# Altium integrated library NSC Legacy.IntLib: 687 symbols (part 6 of 17)
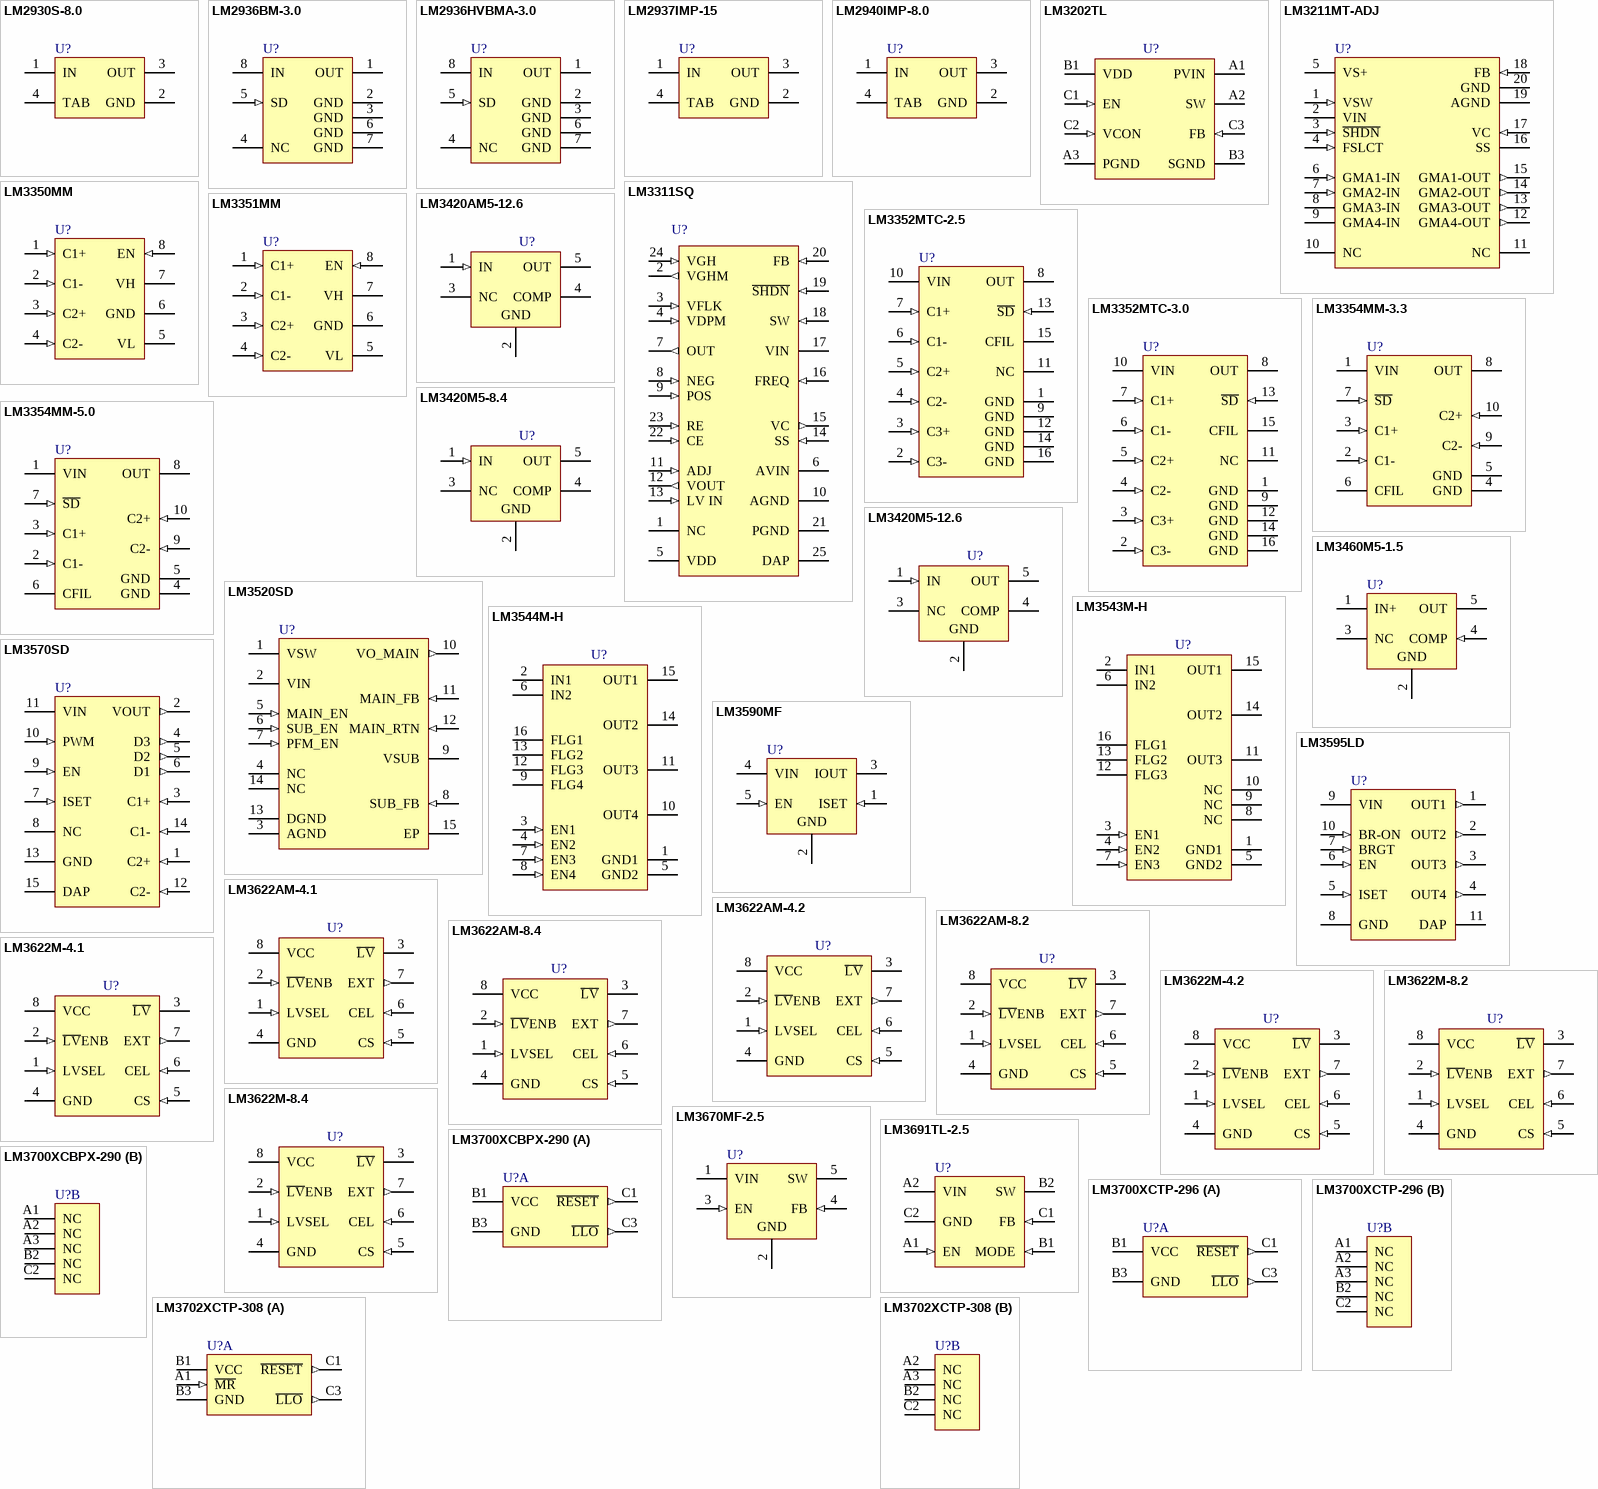
[diagram p29: symbols LM2930S-8.0 to LM3702XCTP-308]

## LM3211MT-ADJ
designator U?
Step-up PWM DC/DC Converter Integrated with 4 Buffers, 20-pin TSSOP; PartNumber: LM3211MT-ADJ; Manufacturer: National Semiconductor; PackageTopMarking: NSUZXYTT*LM3211*MTADJ; CompType: MiscPower; Published: 4-Dec-2008; DatasheetVersion: Feb-2004; PackageVersion: revE, Mar-2003; PackageReference: MTC20; Publisher: Altium Limited; PackageDescription: Molded TSSOP, Jedec, 6.5 x 4.4 x 0.9mm Body, 20 Lead, 0.65mm Pitch; Supplier 1: Farnell; Supplier Part Number 1: 1286875; RoHS: Y; PinCount: 20; Code_JEDEC: MO-153-AC; ComponentLink1Description: LM3211 Datasheet; ComponentLink1URL: http://www.national.com/ds/LM/LM3211.pdf; ComponentLink2Description: LM3211 Web Page; ComponentLink2URL: http://www.national.com/pf/LM/LM3211.html; ComponentLink3Description: MTC20 Package Page; ComponentLink3URL: http://www.national.com/packaging/folders/mtc20.html
footprint MTC20_N (TSOP, 20-Leads, Body 6.5x4.4mm, Pitch 0.65mm, IPC Medium Density)
footprint MTC20_L (TSOP, 20-Leads, Body 6.5x4.4mm, Pitch 0.65mm, IPC High Density)
footprint MTC20_M (TSOP, 20-Leads, Body 6.5x4.4mm, Pitch 0.65mm, IPC Low Density)
pins: 1 VSW (in), 2 VIN (power), 3 ~{SHDN} (in), 4 FSLCT (in), 5 VS+ (power), 6 GMA1-IN (in), 7 GMA2-IN (in), 8 GMA3-IN, 9 GMA4-IN (power), 10 NC, 11 NC, 12 GMA4-OUT (out), 13 GMA3-OUT (out), 14 GMA2-OUT (out), 15 GMA1-OUT (out), 16 SS, 17 VC (in), 18 FB (in), 19 AGND (power), 20 GND (power)

## LM3311SQ
designator U?
Step-Up PWM DC/DC Converter with Integrated LDO, Op-Amp, and Gate Pulse Modulation Switch, 24-pin LLP; PartNumber: LM3311SQ; Manufacturer: National Semiconductor; PackageTopMarking: NS*UZXYTT*L3311SQ; CompType: MiscPower; Published: 4-Dec-2008; DatasheetVersion: Nov-2007; PackageVersion: revB, Aug-2003; PackageReference: SQA24A; Publisher: Altium Limited; PackageDescription: LLP, Plastic, Quad, 4 x 4 x 0.8mm Body, 24 Lead, 0.5mm Pitch, No Pullback; Supplier 1: Farnell; Supplier Part Number 1: 1312712; RoHS: Y; PinCount: 24; Code_JEDEC: MO-220-WGGD-6; ComponentLink1Description: LM3311 Datasheet; ComponentLink1URL: http://www.national.com/ds/LM/LM3311.pdf; ComponentLink2Description: LM3311 Web Page; ComponentLink2URL: http://www.national.com/pf/LM/LM3311.html; ComponentLink3Description: SQA24A Package Page; ComponentLink3URL: http://www.national.com/packaging/folders/sqa24a.html
footprint SQA24A (QFN, 24-Leads, Body 4x4mm, Pitch 0.5mm, NSC Recommended)
pins: 1 NC, 2 VGHM (out), 3 VFLK (in), 4 VDPM (in), 5 VDD (power), 6 AVIN (power), 7 OUT (out), 8 NEG (in), 9 POS (in), 10 AGND (power), 11 ADJ (in), 12 VOUT (out), 13 LV IN (in), 14 SS (in), 15 VC (out), 16 FREQ (in), 17 VIN (power), 18 SW (in), 19 ~{SHDN} (in), 20 FB (in), 21 PGND (power), 22 CE (in), 23 RE (in), 24 VGH (in), 25 DAP (power)

## LM3350MM
designator U?
Switched Capacitor Voltage Converter, 8-pin Mini SOIC; PartNumber: LM3350MM; Manufacturer: National Semiconductor; PackageTopMarking: ZXTT*S00A; CompType: Switch Caps; Published: 4-Dec-2008; DatasheetVersion: Dec-1999; PackageVersion: revF, Apr-2008; PackageReference: MUA08A; Publisher: Altium Limited; PackageDescription: MINI SOIC, .118 x .118 x .034in, 8 Lead, .0256in Pitch; RoHS: Y; PinCount: 8; Code_JEDEC: MO-187-AA; ComponentLink1Description: LM3350 Datasheet; ComponentLink1URL: http://www.national.com/ds/LM/LM3350.pdf; ComponentLink2Description: LM3350 Web Page; ComponentLink2URL: http://www.national.com/pf/LM/LM3350.html; ComponentLink3Description: MUA08A Package Page; ComponentLink3URL: http://www.national.com/packaging/folders/mua08a.html
footprint MUA08A_N (TSOP, 8-Leads, Body 3x3mm, Pitch 0.65mm, IPC Medium Density)
footprint MUA08A_L (TSOP, 8-Leads, Body 3x3mm, Pitch 0.65mm, IPC High Density)
footprint MUA08A_M (TSOP, 8-Leads, Body 3x3mm, Pitch 0.65mm, IPC Low Density)
pins: 1 C1+ (in), 2 C1- (in), 3 C2+ (in), 4 C2- (in), 5 VL (power), 6 GND (power), 7 VH (power), 8 EN (in)

## LM3351MM
designator U?
Switched Capacitor Voltage Converter, 8-pin Mini SOIC; PartNumber: LM3351MM; Manufacturer: National Semiconductor; PackageTopMarking: ZXTT*S05A; PowerWise: N; CompType: Switch Caps; Published: 4-Dec-2008; DatasheetVersion: Dec-1999; PackageVersion: revF, Apr-2008; PackageReference: MUA08A; Publisher: Altium Limited; PackageDescription: MINI SOIC, .118 x .118 x .034in, 8 Lead, .0256in Pitch; Supplier 1: Digi-Key; Supplier Part Number 1: LM3351MMCT-ND; Supplier 2: Digi-Key; Supplier Part Number 2: LM3351MMDKR-ND; RoHS: O; PinCount: 8; Code_JEDEC: MO-187-AA; ComponentLink1Description: LM3351 Datasheet; ComponentLink1URL: http://www.national.com/ds/LM/LM3351.pdf; ComponentLink2Description: LM3351 Web Page; ComponentLink2URL: http://www.national.com/pf/LM/LM3351.html; ComponentLink3Description: MUA08A Package Page; ComponentLink3URL: http://www.national.com/packaging/folders/mua08a.html
footprint MUA08A_N (TSOP, 8-Leads, Body 3x3mm, Pitch 0.65mm, IPC Medium Density)
footprint MUA08A_L (TSOP, 8-Leads, Body 3x3mm, Pitch 0.65mm, IPC High Density)
footprint MUA08A_M (TSOP, 8-Leads, Body 3x3mm, Pitch 0.65mm, IPC Low Density)
pins: 1 C1+ (in), 2 C1- (in), 3 C2+ (in), 4 C2- (in), 5 VL (power), 6 GND (power), 7 VH (power), 8 EN (in)

## LM3352MTC-2.5
designator U?
Regulated 200mA Buck-Boost Switched Capacitor DC/DC Converter, 16-pin TSSOP; PartNumber: LM3352MTC-2.5; Manufacturer: National Semiconductor; PackageTopMarking: NSZXYTT*3352M*TC2.5; CompType: Switch Caps; Published: 4-Dec-2008; DatasheetVersion: Sep-1999; PackageVersion: revD, Jun-2003; PackageReference: MTC16; Publisher: Altium Limited; PackageDescription: Molded TSSOP, Jedec, 5 x 4.4 x 0.9mm Body, 16 Lead, 0.65mm Pitch; RoHS: Y; PinCount: 16; Code_JEDEC: MO-153-AB; ComponentLink1Description: LM3352 Datasheet; ComponentLink1URL: http://www.national.com/ds/LM/LM3352.pdf; ComponentLink2Description: LM3352 Web Page; ComponentLink2URL: http://www.national.com/pf/LM/LM3352.html; ComponentLink3Description: MTC16 Package Page; ComponentLink3URL: http://www.national.com/packaging/folders/mtc16.html
footprint MTC16_N (TSOP, 16-Leads, Body 5x4.4mm, Pitch 0.65mm, IPC Medium Density)
footprint MTC16_L (TSOP, 16-Leads, Body 5x4.4mm, Pitch 0.65mm, IPC High Density)
footprint MTC16_M (TSOP, 16-Leads, Body 5x4.4mm, Pitch 0.65mm, IPC Low Density)
pins: 1 GND (power), 2 C3- (in), 3 C3+ (in), 4 C2- (in), 5 C2+ (in), 6 C1- (in), 7 C1+ (in), 8 OUT (power), 9 GND (power), 10 VIN (power), 11 NC, 12 GND (power), 13 ~{SD} (in), 14 GND (power), 15 CFIL, 16 GND (power)

## LM3352MTC-3.0
designator U?
Regulated 200mA Buck-Boost Switched Capacitor DC/DC Converter, 16-pin TSSOP; PartNumber: LM3352MTC-3.0; Manufacturer: National Semiconductor; PackageTopMarking: NSZXYTT*3352M*TC3.0; CompType: Switch Caps; Published: 4-Dec-2008; DatasheetVersion: Sep-1999; PackageVersion: revD, Jun-2003; PackageReference: MTC16; Publisher: Altium Limited; PackageDescription: Molded TSSOP, Jedec, 5 x 4.4 x 0.9mm Body, 16 Lead, 0.65mm Pitch; RoHS: Y; PinCount: 16; Code_JEDEC: MO-153-AB; ComponentLink1Description: LM3352 Datasheet; ComponentLink1URL: http://www.national.com/ds/LM/LM3352.pdf; ComponentLink2Description: LM3352 Web Page; ComponentLink2URL: http://www.national.com/pf/LM/LM3352.html; ComponentLink3Description: MTC16 Package Page; ComponentLink3URL: http://www.national.com/packaging/folders/mtc16.html
footprint MTC16_N (TSOP, 16-Leads, Body 5x4.4mm, Pitch 0.65mm, IPC Medium Density)
footprint MTC16_L (TSOP, 16-Leads, Body 5x4.4mm, Pitch 0.65mm, IPC High Density)
footprint MTC16_M (TSOP, 16-Leads, Body 5x4.4mm, Pitch 0.65mm, IPC Low Density)
pins: 1 GND (power), 2 C3- (in), 3 C3+ (in), 4 C2- (in), 5 C2+ (in), 6 C1- (in), 7 C1+ (in), 8 OUT (power), 9 GND (power), 10 VIN (power), 11 NC, 12 GND (power), 13 ~{SD} (in), 14 GND (power), 15 CFIL, 16 GND (power)

## LM3354MM-3.3
designator U?
Regulated 90mA Buck-Boost Switched Capacitor DC/DC Converter, 10-pin MSOP; PartNumber: LM3354MM-3.3; Manufacturer: National Semiconductor; PackageTopMarking: ZXTT*S36B; PowerWise: N; CompType: Switch Caps; Published: 4-Dec-2008; DatasheetVersion: Sep-2002; PackageVersion: revB, Jul-2003; PackageReference: MUB10A; Publisher: Altium Limited; PackageDescription: Mini-SO, Molded, .118 x .118 x .034in Body, 10 Lead, .0197in Pitch; Supplier 1: Farnell; Supplier Part Number 1: 9779426; RoHS: Y; PinCount: 10; Code_JEDEC: MO-187-BA; ComponentLink1Description: LM3354 Datasheet; ComponentLink1URL: http://www.national.com/ds/LM/LM3354.pdf; ComponentLink2Description: LM3354 Web Page; ComponentLink2URL: http://www.national.com/pf/LM/LM3354.html; ComponentLink3Description: MUB10A Package Page; ComponentLink3URL: http://www.national.com/packaging/folders/mub10a.html
footprint MUB10A_N (TSSOP, 10-Leads, Body 3x3mm, Pitch 0.5mm, IPC Medium Density)
footprint MUB10A_L (TSSOP, 10-Leads, Body 3x3mm, Pitch 0.5mm, IPC High Density)
footprint MUB10A_M (TSSOP, 10-Leads, Body 3x3mm, Pitch 0.5mm, IPC Low Density)
pins: 1 VIN (power), 2 C1- (in), 3 C1+ (in), 4 GND (power), 5 GND (power), 6 CFIL, 7 ~{SD} (in), 8 OUT (power), 9 C2- (in), 10 C2+ (in)

## LM3354MM-5.0
designator U?
Regulated 90mA Buck-Boost Switched Capacitor DC/DC Converter, 10-pin MSOP; PartNumber: LM3354MM-5.0; Manufacturer: National Semiconductor; PackageTopMarking: ZXTT*S54B; CompType: Switch Caps; Published: 4-Dec-2008; DatasheetVersion: Sep-2002; PackageVersion: revB, Jul-2003; PackageReference: MUB10A; Publisher: Altium Limited; PackageDescription: Mini-SO, Molded, .118 x .118 x .034in Body, 10 Lead, .0197in Pitch; Supplier 1: Farnell; Supplier Part Number 1: 9779400; RoHS: O; PinCount: 10; Code_JEDEC: MO-187-BA; ComponentLink1Description: LM3354 Datasheet; ComponentLink1URL: http://www.national.com/ds/LM/LM3354.pdf; ComponentLink2Description: LM3354 Web Page; ComponentLink2URL: http://www.national.com/pf/LM/LM3354.html; ComponentLink3Description: MUB10A Package Page; ComponentLink3URL: http://www.national.com/packaging/folders/mub10a.html
footprint MUB10A_N (TSSOP, 10-Leads, Body 3x3mm, Pitch 0.5mm, IPC Medium Density)
footprint MUB10A_L (TSSOP, 10-Leads, Body 3x3mm, Pitch 0.5mm, IPC High Density)
footprint MUB10A_M (TSSOP, 10-Leads, Body 3x3mm, Pitch 0.5mm, IPC Low Density)
pins: 1 VIN (power), 2 C1- (in), 3 C1+ (in), 4 GND (power), 5 GND (power), 6 CFIL, 7 ~{SD} (in), 8 OUT (power), 9 C2- (in), 10 C2+ (in)

## LM3420AM5-12.6
designator U?
Lithium-Ion Battery Charge Controller, 5-pin SOT-23; PartNumber: LM3420AM5-12.6; Manufacturer: National Semiconductor; PackageTopMarking: D04A*XTT; CompType: MiscPower; Published: 4-Dec-2008; DatasheetVersion: Jul-2000; PackageVersion: revD, Aug-2008; PackageReference: MF05A; Publisher: Altium Limited; PackageDescription: Molded SOT-23, .115 x .063 x .040 in Body, 5 Lead, .0375 in Pitch; Supplier 1: Digi-Key; Supplier Part Number 1: LM3420AM5-12.6TR-ND; Supplier 2: Digi-Key; Supplier Part Number 2: LM3420AM5-12.6CT-ND; RoHS: Y; PinCount: 5; ComponentLink1Description: LM3420 Datasheet; ComponentLink1URL: http://www.national.com/ds/LM/LM3420.pdf; ComponentLink2Description: LM3420 Web Page; ComponentLink2URL: http://www.national.com/pf/LM/LM3420.html; ComponentLink3Description: MF05A Package Page; ComponentLink3URL: http://www.national.com/packaging/folders/mf05a.html
footprint MF05A_N (SOT23, 5-Leads, Body 2.9x1.6mm, Pitch 0.95mm, Lead Span 2.8mm, IPC Medium Density)
footprint MF05A_L (SOT23, 5-Leads, Body 2.9x1.6mm, Pitch 0.95mm, Lead Span 2.8mm, IPC High Density)
footprint MF05A_M (SOT23, 5-Leads, Body 2.9x1.6mm, Pitch 0.95mm, Lead Span 2.8mm, IPC Low Density)
pins: 1 IN (in), 2 GND (power), 3 NC, 4 COMP, 5 OUT (oe)

## LM3420M5-8.4
designator U?
Lithium-Ion Battery Charge Controller, 5-pin SOT-23; PartNumber: LM3420M5-8.4; Manufacturer: National Semiconductor; PackageTopMarking: D03B*XTT; CompType: MiscPower; Published: 4-Dec-2008; DatasheetVersion: Jul-2000; PackageVersion: revD, Aug-2008; PackageReference: MF05A; Publisher: Altium Limited; PackageDescription: Molded SOT-23, .115 x .063 x .040 in Body, 5 Lead, .0375 in Pitch; Supplier 1: Digi-Key; Supplier Part Number 1: LM3420M5-8.4TR-ND; Supplier 2: Digi-Key; Supplier Part Number 2: LM3420M5-8.4CT-ND; RoHS: Y; PinCount: 5; ComponentLink1Description: LM3420 Datasheet; ComponentLink1URL: http://www.national.com/ds/LM/LM3420.pdf; ComponentLink2Description: LM3420 Web Page; ComponentLink2URL: http://www.national.com/pf/LM/LM3420.html; ComponentLink3Description: MF05A Package Page; ComponentLink3URL: http://www.national.com/packaging/folders/mf05a.html
footprint MF05A_N (SOT23, 5-Leads, Body 2.9x1.6mm, Pitch 0.95mm, Lead Span 2.8mm, IPC Medium Density)
footprint MF05A_L (SOT23, 5-Leads, Body 2.9x1.6mm, Pitch 0.95mm, Lead Span 2.8mm, IPC High Density)
footprint MF05A_M (SOT23, 5-Leads, Body 2.9x1.6mm, Pitch 0.95mm, Lead Span 2.8mm, IPC Low Density)
pins: 1 IN (in), 2 GND (power), 3 NC, 4 COMP, 5 OUT (oe)

## LM3420M5-12.6
designator U?
Lithium-Ion Battery Charge Controller, 5-pin SOT-23; PartNumber: LM3420M5-12.6; Manufacturer: National Semiconductor; PackageTopMarking: D04B*XTT; CompType: MiscPower; Published: 4-Dec-2008; DatasheetVersion: Jul-2000; PackageVersion: revD, Aug-2008; PackageReference: MF05A; Publisher: Altium Limited; PackageDescription: Molded SOT-23, .115 x .063 x .040 in Body, 5 Lead, .0375 in Pitch; Supplier 1: Digi-Key; Supplier Part Number 1: LM3420M5-12.6TR-ND; Supplier 2: Digi-Key; Supplier Part Number 2: LM3420M5-12.6CT-ND; RoHS: Y; PinCount: 5; ComponentLink1Description: LM3420 Datasheet; ComponentLink1URL: http://www.national.com/ds/LM/LM3420.pdf; ComponentLink2Description: LM3420 Web Page; ComponentLink2URL: http://www.national.com/pf/LM/LM3420.html; ComponentLink3Description: MF05A Package Page; ComponentLink3URL: http://www.national.com/packaging/folders/mf05a.html
footprint MF05A_N (SOT23, 5-Leads, Body 2.9x1.6mm, Pitch 0.95mm, Lead Span 2.8mm, IPC Medium Density)
footprint MF05A_L (SOT23, 5-Leads, Body 2.9x1.6mm, Pitch 0.95mm, Lead Span 2.8mm, IPC High Density)
footprint MF05A_M (SOT23, 5-Leads, Body 2.9x1.6mm, Pitch 0.95mm, Lead Span 2.8mm, IPC Low Density)
pins: 1 IN (in), 2 GND (power), 3 NC, 4 COMP, 5 OUT (oe)

## LM3460M5-1.5
designator U?
Precision Controller for GTLp and GTL Bus Termination, 5-pin SOT-23; PartNumber: LM3460M5-1.5; Manufacturer: National Semiconductor; PackageTopMarking: D06A*XTT; CompType: MiscPower; Published: 4-Dec-2008; DatasheetVersion: Mar-2005; PackageVersion: revD, Aug-2008; PackageReference: MF05A; Publisher: Altium Limited; PackageDescription: Molded SOT-23, .115 x .063 x .040 in Body, 5 Lead, .0375 in Pitch; RoHS: Y; PinCount: 5; ComponentLink1Description: LM3460 Datasheet; ComponentLink1URL: http://www.national.com/ds/LM/LM3460.pdf; ComponentLink2Description: LM3460 Web Page; ComponentLink2URL: http://www.national.com/pf/LM/LM3460.html; ComponentLink3Description: MF05A Package Page; ComponentLink3URL: http://www.national.com/packaging/folders/mf05a.html
footprint MF05A_N (SOT23, 5-Leads, Body 2.9x1.6mm, Pitch 0.95mm, Lead Span 2.8mm, IPC Medium Density)
footprint MF05A_L (SOT23, 5-Leads, Body 2.9x1.6mm, Pitch 0.95mm, Lead Span 2.8mm, IPC High Density)
footprint MF05A_M (SOT23, 5-Leads, Body 2.9x1.6mm, Pitch 0.95mm, Lead Span 2.8mm, IPC Low Density)
pins: 1 IN+ (power), 2 GND (power), 3 NC, 4 COMP (in), 5 OUT (power)

## LM3520SD
designator U?
Integrated White LED Driver with Organic LED Display Power Supply, 14-pin LLP; PartNumber: LM3520SD; Manufacturer: National Semiconductor; PackageTopMarking: ZXYTT*L133B; CompType: MiscPower; Published: 4-Dec-2008; DatasheetVersion: Sep-2005; PackageVersion: revA, Jun-2003; PackageReference: SDA14A; Publisher: Altium Limited; PackageDescription: LLP, Plastic, Dual, 4 x 3 x 0.8mm Body, 14 Lead, 0.5mm Pitch, No Pullback; Supplier 1: Farnell; Supplier Part Number 1: 1312718; RoHS: Y; PinCount: 14; ComponentLink1Description: LM3520 Datasheet; ComponentLink1URL: http://www.national.com/ds/LM/LM3520.pdf; ComponentLink2Description: LM3520 Web Page; ComponentLink2URL: http://www.national.com/pf/LM/LM3520.html; ComponentLink3Description: SDA14A Package Page; ComponentLink3URL: http://www.national.com/packaging/folders/sda14a.html
footprint SDA14A (SON, 14-Leads, Body 4x3mm, Pitch 0.5mm, NSC Recommended)
pins: 1 VSW (power), 2 VIN (power), 3 AGND (power), 4 NC, 5 MAIN_EN (in), 6 SUB_EN (in), 7 PFM_EN (in), 8 SUB_FB (in), 9 VSUB (power), 10 VO_MAIN (out), 11 MAIN_FB (in), 12 MAIN_RTN (in), 13 DGND (power), 14 NC, 15 EP (power)

## LM3543M-H
designator U?
Triple Port USB Power Distribution Switch and Over-Current Protection, 16-pin Narrow SOIC; PartNumber: LM3543M-H; Manufacturer: National Semiconductor; PackageTopMarking: NSUZXYTT*LM3543M-H; PowerWise: N; CompType: MiscPower; Published: 4-Dec-2008; DatasheetVersion: Jun-2005; PackageVersion: revJ, Aug-1995; PackageReference: M16A; Publisher: Altium Limited; PackageDescription: Molded Package, SO, .150in Wide, 16 Lead; Supplier 1: Farnell; Supplier Part Number 1: 1008245; RoHS: Y; PinCount: 16; Code_JEDEC: MS-012-AC; Code_IPC: SOIC127P600-16; ComponentLink1Description: LM3543 Datasheet; ComponentLink1URL: http://www.national.com/ds/LM/LM3543.pdf; ComponentLink2Description: LM3543 Web Page; ComponentLink2URL: http://www.national.com/pf/LM/LM3543.html; ComponentLink3Description: M16A Package Page; ComponentLink3URL: http://www.national.com/packaging/folders/m16a.html
footprint M16A_N (SOIC, 16-Leads, Body 9.9x3.9mm, Pitch 1.27mm, IPC Medium Density)
footprint M16A_L (SOIC, 16-Leads, Body 9.9x3.9mm, Pitch 1.27mm, IPC High Density)
footprint M16A_M (SOIC, 16-Leads, Body 9.9x3.9mm, Pitch 1.27mm, IPC Low Density)
pins: 1 GND1 (power), 2 IN1 (power), 3 EN1 (in), 4 EN2 (in), 5 GND2 (power), 6 IN2 (power), 7 EN3 (in), 8 NC, 9 NC, 10 NC, 11 OUT3 (power), 12 FLG3 (oc), 13 FLG2 (oc), 14 OUT2 (power), 15 OUT1 (power), 16 FLG1 (oc)

## LM3544M-H
designator U?
Quad Port USB Power Distribution Switch and Over-Current Protection, 16-pin Narrow SOIC; PartNumber: LM3544M-H; Manufacturer: National Semiconductor; PackageTopMarking: NSUZXYTT*LM3544M-H; PowerWise: N; CompType: MiscPower; Published: 4-Dec-2008; DatasheetVersion: Apr-2005; PackageVersion: revJ, Aug-1995; PackageReference: M16A; Publisher: Altium Limited; PackageDescription: Molded Package, SO, .150in Wide, 16 Lead; RoHS: O; PinCount: 16; Code_JEDEC: MS-012-AC; Code_IPC: SOIC127P600-16; ComponentLink1Description: LM3544 Datasheet; ComponentLink1URL: http://www.national.com/ds/LM/LM3544.pdf; ComponentLink2Description: LM3544 Web Page; ComponentLink2URL: http://www.national.com/pf/LM/LM3544.html; ComponentLink3Description: M16A Package Page; ComponentLink3URL: http://www.national.com/packaging/folders/m16a.html
footprint M16A_N (SOIC, 16-Leads, Body 9.9x3.9mm, Pitch 1.27mm, IPC Medium Density)
footprint M16A_L (SOIC, 16-Leads, Body 9.9x3.9mm, Pitch 1.27mm, IPC High Density)
footprint M16A_M (SOIC, 16-Leads, Body 9.9x3.9mm, Pitch 1.27mm, IPC Low Density)
pins: 1 GND1 (power), 2 IN1 (power), 3 EN1 (in), 4 EN2 (in), 5 GND2 (power), 6 IN2 (power), 7 EN3 (in), 8 EN4 (in), 9 FLG4 (oc), 10 OUT4 (power), 11 OUT3 (power), 12 FLG3 (oc), 13 FLG2 (oc), 14 OUT2 (power), 15 OUT1 (power), 16 FLG1 (oc)

## LM3570SD
designator U?
Low Noise White LED Driver System, 14-pin LLP; PartNumber: LM3570SD; Manufacturer: National Semiconductor; PackageTopMarking: ZXYTT*L3570; CompType: Switcher; Published: 4-Dec-2008; DatasheetVersion: Jul-2004; PackageVersion: revA, Jun-2003; PackageReference: SDA14A; Publisher: Altium Limited; PackageDescription: LLP, Plastic, Dual, 4 x 3 x 0.8mm Body, 14 Lead, 0.5mm Pitch, No Pullback; Supplier 1: Farnell; Supplier Part Number 1: 1312720; RoHS: N; PinCount: 14; ComponentLink1Description: LM3570 Datasheet; ComponentLink1URL: http://www.national.com/ds/LM/LM3570.pdf; ComponentLink2Description: LM3570 Web Page; ComponentLink2URL: http://www.national.com/pf/LM/LM3570.html; ComponentLink3Description: SDA14A Package Page; ComponentLink3URL: http://www.national.com/packaging/folders/sda14a.html
footprint SDA14A (SON, 14-Leads, Body 4x3mm, Pitch 0.5mm, NSC Recommended)
pins: 1 C2+ (in), 2 VOUT (out), 3 C1+ (in), 4 D3 (out), 5 D2 (out), 6 D1 (out), 7 ISET (in), 8 NC, 9 EN (in), 10 PWM (in), 11 VIN (power), 12 C2- (in), 13 GND (power), 14 C1- (in), 15 DAP (power)

## LM3590MF
designator U?
Series White LED Driver, 5-pin SOT-23; PartNumber: LM3590MF; Manufacturer: National Semiconductor; PackageTopMarking: SABB*XTT; CompType: Switcher; Published: 4-Dec-2008; DatasheetVersion: Nov-2003; PackageVersion: revD, Aug-2008; PackageReference: MF05A; Publisher: Altium Limited; PackageDescription: Molded SOT-23, .115 x .063 x .040 in Body, 5 Lead, .0375 in Pitch; Supplier 1: Farnell; Supplier Part Number 1: 8181330; RoHS: N; PinCount: 5; ComponentLink1Description: LM3590 Datasheet; ComponentLink1URL: http://www.national.com/ds/LM/LM3590.pdf; ComponentLink2Description: LM3590 Web Page; ComponentLink2URL: http://www.national.com/pf/LM/LM3590.html; ComponentLink3Description: MF05A Package Page; ComponentLink3URL: http://www.national.com/packaging/folders/mf05a.html
footprint MF05A_N (SOT23, 5-Leads, Body 2.9x1.6mm, Pitch 0.95mm, Lead Span 2.8mm, IPC Medium Density)
footprint MF05A_L (SOT23, 5-Leads, Body 2.9x1.6mm, Pitch 0.95mm, Lead Span 2.8mm, IPC High Density)
footprint MF05A_M (SOT23, 5-Leads, Body 2.9x1.6mm, Pitch 0.95mm, Lead Span 2.8mm, IPC Low Density)
pins: 1 ISET (in), 2 GND (power), 3 IOUT (power), 4 VIN (power), 5 EN (in)

## LM3595LD
designator U?
Parallel White-LED Driver, 10-pin LLP; PartNumber: LM3595LD; Manufacturer: National Semiconductor; PackageTopMarking: ZXYTT*L3595; PowerWise: Y; CompType: MiscPower; Published: 4-Dec-2008; DatasheetVersion: Aug-2003; PackageVersion: revB, Jan-2003; PackageReference: LDA10A; Publisher: Altium Limited; PackageDescription: LLP, Plastic, Dual, 3 x 3 x 0.75mm Body, 10 Lead, 0.5mm Pitch; Supplier 1: Farnell; Supplier Part Number 1: 8181349; RoHS: O; PinCount: 10; ComponentLink1Description: LM3595 Datasheet; ComponentLink1URL: http://www.national.com/ds/LM/LM3595.pdf; ComponentLink2Description: LM3595 Web Page; ComponentLink2URL: http://www.national.com/pf/LM/LM3595.html; ComponentLink3Description: LDA10A Package Page; ComponentLink3URL: http://www.national.com/packaging/folders/lda10a.html
footprint LDA10A (PSON, 10-Leads, Body 3x3mm, Pitch 0.5mm, NSC Recommended)
pins: 1 OUT1 (out), 2 OUT2 (out), 3 OUT3 (out), 4 OUT4 (out), 5 ISET (in), 6 EN (in), 7 BRGT (in), 8 GND (power), 9 VIN (power), 10 BR-ON (in), 11 DAP (power)

## LM3622AM-4.1
designator U?
Lithium-Ion Battery Charge Controller, 8-pin Narrow SOIC; PartNumber: LM3622AM-4.1; Manufacturer: National Semiconductor; PackageTopMarking: NSZXTT*3622A*M-4.1; CompType: MiscPower; Published: 4-Dec-2008; DatasheetVersion: Feb-2000; PackageVersion: revM, May-2009; PackageReference: M08A; Publisher: Altium Limited; PackageDescription: SOIC Narrow, 4.9 x 3.9 x 1.45mm, 8 Lead, 1.27mm Pitch; RoHS: Y; PinCount: 8; Code_JEDEC: MS-012-AA; Code_IPC: SOIC127P600-8; ComponentLink1Description: LM3622 Datasheet; ComponentLink1URL: http://www.national.com/ds/LM/LM3622.pdf; ComponentLink2Description: LM3622 Web Page; ComponentLink2URL: http://www.national.com/pf/LM/LM3622.html; ComponentLink3Description: M08A Package Page; ComponentLink3URL: http://www.national.com/packaging/folders/m08a.html
footprint M08A_N (SOIC, 8-Leads, Body 4.9x3.9mm, Pitch 1.27mm, IPC Medium Density)
footprint M08A_L (SOIC, 8-Leads, Body 4.9x3.9mm, Pitch 1.27mm, IPC High Density)
footprint M08A_M (SOIC, 8-Leads, Body 4.9x3.9mm, Pitch 1.27mm, IPC Low Density)
pins: 1 LVSEL (in), 2 ~{LV}ENB (in), 3 ~{LV} (oc), 4 GND (power), 5 CS (in), 6 CEL (in), 7 EXT (out), 8 VCC (power)

## LM3622AM-4.2
designator U?
Lithium-Ion Battery Charge Controller, 8-pin Narrow SOIC; PartNumber: LM3622AM-4.2; Manufacturer: National Semiconductor; PackageTopMarking: NSZXTT*3622A*M-4.2; CompType: MiscPower; Published: 4-Dec-2008; DatasheetVersion: Feb-2000; PackageVersion: revM, May-2009; PackageReference: M08A; Publisher: Altium Limited; PackageDescription: SOIC Narrow, 4.9 x 3.9 x 1.45mm, 8 Lead, 1.27mm Pitch; RoHS: Y; PinCount: 8; Code_JEDEC: MS-012-AA; Code_IPC: SOIC127P600-8; ComponentLink1Description: LM3622 Datasheet; ComponentLink1URL: http://www.national.com/ds/LM/LM3622.pdf; ComponentLink2Description: LM3622 Web Page; ComponentLink2URL: http://www.national.com/pf/LM/LM3622.html; ComponentLink3Description: M08A Package Page; ComponentLink3URL: http://www.national.com/packaging/folders/m08a.html
footprint M08A_N (SOIC, 8-Leads, Body 4.9x3.9mm, Pitch 1.27mm, IPC Medium Density)
footprint M08A_L (SOIC, 8-Leads, Body 4.9x3.9mm, Pitch 1.27mm, IPC High Density)
footprint M08A_M (SOIC, 8-Leads, Body 4.9x3.9mm, Pitch 1.27mm, IPC Low Density)
pins: 1 LVSEL (in), 2 ~{LV}ENB (in), 3 ~{LV} (oc), 4 GND (power), 5 CS (in), 6 CEL (in), 7 EXT (out), 8 VCC (power)

## LM3622AM-8.2
designator U?
Lithium-Ion Battery Charge Controller, 8-pin Narrow SOIC; PartNumber: LM3622AM-8.2; Manufacturer: National Semiconductor; PackageTopMarking: NSZXTT*3622A*M-8.2; CompType: MiscPower; Published: 4-Dec-2008; DatasheetVersion: Feb-2000; PackageVersion: revM, May-2009; PackageReference: M08A; Publisher: Altium Limited; PackageDescription: SOIC Narrow, 4.9 x 3.9 x 1.45mm, 8 Lead, 1.27mm Pitch; RoHS: N; PinCount: 8; Code_JEDEC: MS-012-AA; Code_IPC: SOIC127P600-8; ComponentLink1Description: LM3622 Datasheet; ComponentLink1URL: http://www.national.com/ds/LM/LM3622.pdf; ComponentLink2Description: LM3622 Web Page; ComponentLink2URL: http://www.national.com/pf/LM/LM3622.html; ComponentLink3Description: M08A Package Page; ComponentLink3URL: http://www.national.com/packaging/folders/m08a.html
footprint M08A_N (SOIC, 8-Leads, Body 4.9x3.9mm, Pitch 1.27mm, IPC Medium Density)
footprint M08A_L (SOIC, 8-Leads, Body 4.9x3.9mm, Pitch 1.27mm, IPC High Density)
footprint M08A_M (SOIC, 8-Leads, Body 4.9x3.9mm, Pitch 1.27mm, IPC Low Density)
pins: 1 LVSEL (in), 2 ~{LV}ENB (in), 3 ~{LV} (oc), 4 GND (power), 5 CS (in), 6 CEL (in), 7 EXT (out), 8 VCC (power)

## LM3622AM-8.4
designator U?
Lithium-Ion Battery Charge Controller, 8-pin Narrow SOIC; PartNumber: LM3622AM-8.4; Manufacturer: National Semiconductor; PackageTopMarking: NSZXTT*3622A*M-8.4; CompType: MiscPower; Published: 4-Dec-2008; DatasheetVersion: Feb-2000; PackageVersion: revM, May-2009; PackageReference: M08A; Publisher: Altium Limited; PackageDescription: SOIC Narrow, 4.9 x 3.9 x 1.45mm, 8 Lead, 1.27mm Pitch; RoHS: Y; PinCount: 8; Code_JEDEC: MS-012-AA; Code_IPC: SOIC127P600-8; ComponentLink1Description: LM3622 Datasheet; ComponentLink1URL: http://www.national.com/ds/LM/LM3622.pdf; ComponentLink2Description: LM3622 Web Page; ComponentLink2URL: http://www.national.com/pf/LM/LM3622.html; ComponentLink3Description: M08A Package Page; ComponentLink3URL: http://www.national.com/packaging/folders/m08a.html
footprint M08A_N (SOIC, 8-Leads, Body 4.9x3.9mm, Pitch 1.27mm, IPC Medium Density)
footprint M08A_L (SOIC, 8-Leads, Body 4.9x3.9mm, Pitch 1.27mm, IPC High Density)
footprint M08A_M (SOIC, 8-Leads, Body 4.9x3.9mm, Pitch 1.27mm, IPC Low Density)
pins: 1 LVSEL (in), 2 ~{LV}ENB (in), 3 ~{LV} (oc), 4 GND (power), 5 CS (in), 6 CEL (in), 7 EXT (out), 8 VCC (power)

## LM3622M-4.1
designator U?
Lithium-Ion Battery Charge Controller, 8-pin Narrow SOIC; PartNumber: LM3622M-4.1; Manufacturer: National Semiconductor; PackageTopMarking: NSZXTT*3622*M-4.1; CompType: MiscPower; Published: 4-Dec-2008; DatasheetVersion: Feb-2000; PackageVersion: revM, May-2009; PackageReference: M08A; Publisher: Altium Limited; PackageDescription: SOIC Narrow, 4.9 x 3.9 x 1.45mm, 8 Lead, 1.27mm Pitch; RoHS: Y; PinCount: 8; Code_JEDEC: MS-012-AA; Code_IPC: SOIC127P600-8; ComponentLink1Description: LM3622 Datasheet; ComponentLink1URL: http://www.national.com/ds/LM/LM3622.pdf; ComponentLink2Description: LM3622 Web Page; ComponentLink2URL: http://www.national.com/pf/LM/LM3622.html; ComponentLink3Description: M08A Package Page; ComponentLink3URL: http://www.national.com/packaging/folders/m08a.html
footprint M08A_N (SOIC, 8-Leads, Body 4.9x3.9mm, Pitch 1.27mm, IPC Medium Density)
footprint M08A_L (SOIC, 8-Leads, Body 4.9x3.9mm, Pitch 1.27mm, IPC High Density)
footprint M08A_M (SOIC, 8-Leads, Body 4.9x3.9mm, Pitch 1.27mm, IPC Low Density)
pins: 1 LVSEL (in), 2 ~{LV}ENB (in), 3 ~{LV} (oc), 4 GND (power), 5 CS (in), 6 CEL (in), 7 EXT (out), 8 VCC (power)

## LM3622M-4.2
designator U?
Lithium-Ion Battery Charge Controller, 8-pin Narrow SOIC; PartNumber: LM3622M-4.2; Manufacturer: National Semiconductor; PackageTopMarking: NSZXTT*3622*M-4.2; CompType: MiscPower; Published: 4-Dec-2008; DatasheetVersion: Feb-2000; PackageVersion: revM, May-2009; PackageReference: M08A; Publisher: Altium Limited; PackageDescription: SOIC Narrow, 4.9 x 3.9 x 1.45mm, 8 Lead, 1.27mm Pitch; RoHS: Y; PinCount: 8; Code_JEDEC: MS-012-AA; Code_IPC: SOIC127P600-8; ComponentLink1Description: LM3622 Datasheet; ComponentLink1URL: http://www.national.com/ds/LM/LM3622.pdf; ComponentLink2Description: LM3622 Web Page; ComponentLink2URL: http://www.national.com/pf/LM/LM3622.html; ComponentLink3Description: M08A Package Page; ComponentLink3URL: http://www.national.com/packaging/folders/m08a.html
footprint M08A_N (SOIC, 8-Leads, Body 4.9x3.9mm, Pitch 1.27mm, IPC Medium Density)
footprint M08A_L (SOIC, 8-Leads, Body 4.9x3.9mm, Pitch 1.27mm, IPC High Density)
footprint M08A_M (SOIC, 8-Leads, Body 4.9x3.9mm, Pitch 1.27mm, IPC Low Density)
pins: 1 LVSEL (in), 2 ~{LV}ENB (in), 3 ~{LV} (oc), 4 GND (power), 5 CS (in), 6 CEL (in), 7 EXT (out), 8 VCC (power)

## LM3622M-8.2
designator U?
Lithium-Ion Battery Charge Controller, 8-pin Narrow SOIC; PartNumber: LM3622M-8.2; Manufacturer: National Semiconductor; PackageTopMarking: NSZXTT*3622*M-8.2; CompType: MiscPower; Published: 4-Dec-2008; DatasheetVersion: Feb-2000; PackageVersion: revM, May-2009; PackageReference: M08A; Publisher: Altium Limited; PackageDescription: SOIC Narrow, 4.9 x 3.9 x 1.45mm, 8 Lead, 1.27mm Pitch; RoHS: Y; PinCount: 8; Code_JEDEC: MS-012-AA; Code_IPC: SOIC127P600-8; ComponentLink1Description: LM3622 Datasheet; ComponentLink1URL: http://www.national.com/ds/LM/LM3622.pdf; ComponentLink2Description: LM3622 Web Page; ComponentLink2URL: http://www.national.com/pf/LM/LM3622.html; ComponentLink3Description: M08A Package Page; ComponentLink3URL: http://www.national.com/packaging/folders/m08a.html
footprint M08A_N (SOIC, 8-Leads, Body 4.9x3.9mm, Pitch 1.27mm, IPC Medium Density)
footprint M08A_L (SOIC, 8-Leads, Body 4.9x3.9mm, Pitch 1.27mm, IPC High Density)
footprint M08A_M (SOIC, 8-Leads, Body 4.9x3.9mm, Pitch 1.27mm, IPC Low Density)
pins: 1 LVSEL (in), 2 ~{LV}ENB (in), 3 ~{LV} (oc), 4 GND (power), 5 CS (in), 6 CEL (in), 7 EXT (out), 8 VCC (power)

## LM3622M-8.4
designator U?
Lithium-Ion Battery Charge Controller, 8-pin Narrow SOIC; PartNumber: LM3622M-8.4; Manufacturer: National Semiconductor; PackageTopMarking: NSZXTT*3622*M-8.4; CompType: MiscPower; Published: 4-Dec-2008; DatasheetVersion: Feb-2000; PackageVersion: revM, May-2009; PackageReference: M08A; Publisher: Altium Limited; PackageDescription: SOIC Narrow, 4.9 x 3.9 x 1.45mm, 8 Lead, 1.27mm Pitch; RoHS: Y; PinCount: 8; Code_JEDEC: MS-012-AA; Code_IPC: SOIC127P600-8; ComponentLink1Description: LM3622 Datasheet; ComponentLink1URL: http://www.national.com/ds/LM/LM3622.pdf; ComponentLink2Description: LM3622 Web Page; ComponentLink2URL: http://www.national.com/pf/LM/LM3622.html; ComponentLink3Description: M08A Package Page; ComponentLink3URL: http://www.national.com/packaging/folders/m08a.html
footprint M08A_N (SOIC, 8-Leads, Body 4.9x3.9mm, Pitch 1.27mm, IPC Medium Density)
footprint M08A_L (SOIC, 8-Leads, Body 4.9x3.9mm, Pitch 1.27mm, IPC High Density)
footprint M08A_M (SOIC, 8-Leads, Body 4.9x3.9mm, Pitch 1.27mm, IPC Low Density)
pins: 1 LVSEL (in), 2 ~{LV}ENB (in), 3 ~{LV} (oc), 4 GND (power), 5 CS (in), 6 CEL (in), 7 EXT (out), 8 VCC (power)

## LM3670MF-2.5
designator U?
Miniature Step-Down DC-DC Converter for Ultra Low Voltage Circuits, 5-pin SOT-23; PartNumber: LM3670MF-2.5; Manufacturer: National Semiconductor; PackageTopMarking: SDDB*XTT; CompType: MiscPower; Published: 4-Dec-2008; DatasheetVersion: Jan-2006; PackageVersion: revD, Aug-2008; PackageReference: MF05A; Publisher: Altium Limited; PackageDescription: Molded SOT-23, .115 x .063 x .040 in Body, 5 Lead, .0375 in Pitch; RoHS: O; PinCount: 5; ComponentLink1Description: LM3670 Datasheet; ComponentLink1URL: http://www.national.com/ds/LM/LM3670.pdf; ComponentLink2Description: LM3670 Web Page; ComponentLink2URL: http://www.national.com/pf/LM/LM3670.html; ComponentLink3Description: MF05A Package Page; ComponentLink3URL: http://www.national.com/packaging/folders/mf05a.html
footprint MF05A_N (SOT23, 5-Leads, Body 2.9x1.6mm, Pitch 0.95mm, Lead Span 2.8mm, IPC Medium Density)
footprint MF05A_L (SOT23, 5-Leads, Body 2.9x1.6mm, Pitch 0.95mm, Lead Span 2.8mm, IPC High Density)
footprint MF05A_M (SOT23, 5-Leads, Body 2.9x1.6mm, Pitch 0.95mm, Lead Span 2.8mm, IPC Low Density)
pins: 1 VIN (power), 2 GND (power), 3 EN (in), 4 FB (in), 5 SW (power)

## LM3691TL-2.5
designator U?
High Accuracy, Miniature 1A, Step-Down DC-DC Converter for Portable Applications, PowerWise, 6-pin Micro SMD; PartNumber: LM3691TL-2.5; Manufacturer: National Semiconductor; PackageTopMarking: XV*I 8; PowerWise: N; CompType: MiscPower; Published: 29-May-2009; DatasheetVersion: Jan-2009; PackageVersion: revC, Jan-2004; PackageReference: TLA06LCA; Publisher: Altium Limited; PackageDescription: Thin Micro SMD, 6 Bump (Large), 0.5mm Pitch; RoHS: Y; PinCount: 6; Code_JEDEC: MO-211-DB; ComponentLink1Description: LM3691 Datasheet; ComponentLink1URL: http://www.national.com/ds/LM/LM3691.pdf; ComponentLink2Description: LM3691 Web Page; ComponentLink2URL: http://www.national.com/pf/LM/LM3691.html; ComponentLink3Description: TLA06LCA Package Page; ComponentLink3URL: http://www.national.com/packaging/folders/tla06lca.html
footprint TLA06LCA (Micro SMD, 6-Leads, Body 1.57x1.26mm, Pitch 0.5mm, NSC Recommended)
pins: A1 EN (in), A2 VIN (power), B1 MODE (in), B2 SW (power), C1 FB (in), C2 GND (power)

## LM3700XCBPX-290
designator U?
Microprocessor Supervisory Circuit with Low Line Output, 9-pin Micro SMD; PartNumber: LM3700XCBPX-290; Manufacturer: National Semiconductor; PackageTopMarking: XVR*I 23; CompType: MiscPower; Published: 4-Dec-2008; DatasheetVersion: Sep-2003; PackageVersion: revC, Jan-2002; PackageReference: BPA09FFB; Publisher: Altium Limited; PackageDescription: Micro SMD, 9 Bump, 0.5mm Pitch; Supplier 1: Digi-Key; Supplier Part Number 1: LM3700XCBPX-290-ND; RoHS: N; PinCount: 9; Code_JEDEC: MO-211-BC; ComponentLink1Description: LM3700 Datasheet; ComponentLink1URL: http://www.national.com/ds/LM/LM3700.pdf; ComponentLink2Description: LM3700 Web Page; ComponentLink2URL: http://www.national.com/pf/LM/LM3700.html; ComponentLink3Description: BPA09FFB Package Page; ComponentLink3URL: http://www.national.com/packaging/folders/bpa09ffb.html
footprint BPA09FFB (Micro SMD, 9-Leads, Body 1.41x1.41mm, Pitch 0.5mm, NSC Recommended)
part A pins: B1 VCC (power), B3 GND (power), C1 ~{RESET} (out), C3 ~{LLO} (out)
part B pins: A1 NC, A2 NC, A3 NC, B2 NC, C2 NC

## LM3700XCTP-296
designator U?
Microprocessor Supervisory Circuit with Low Line Output, 9-pin Micro SMD; PartNumber: LM3700XCTP-296; Manufacturer: National Semiconductor; PackageTopMarking: XVR*I 37; PowerWise: N; CompType: MiscPower; Published: 4-Dec-2008; DatasheetVersion: Sep-2003; PackageVersion: revA, Mar-2002; PackageReference: TPA09FFA; Publisher: Altium Limited; PackageDescription: Thin Micro SMD, 9 Bump, 0.5mm Pitch; RoHS: Y; PinCount: 9; Code_JEDEC: MO-211-BC; ComponentLink1Description: LM3700 Datasheet; ComponentLink1URL: http://www.national.com/ds/LM/LM3700.pdf; ComponentLink2Description: LM3700 Web Page; ComponentLink2URL: http://www.national.com/pf/LM/LM3700.html; ComponentLink3Description: TPA09FFA Package Page; ComponentLink3URL: http://www.national.com/packaging/folders/tpa09ffa.html
footprint TPA09FFA (Micro SMD, 9-Leads, Body 1.41x1.41mm, Pitch 0.5mm, NSC Recommended)
part A pins: B1 VCC (power), B3 GND (power), C1 ~{RESET} (out), C3 ~{LLO} (out)
part B pins: A1 NC, A2 NC, A3 NC, B2 NC, C2 NC

## LM3702XCTP-308
designator U?
Microprocessor Supervisory Circuits with Low Line Output and Manual Reset, 9-pin Micro SMD; PartNumber: LM3702XCTP-308; Manufacturer: National Semiconductor; PackageTopMarking: XVR*I 38; PowerWise: N; CompType: MiscPower; Published: 4-Dec-2008; DatasheetVersion: Sep-2003; PackageVersion: revA, Mar-2002; PackageReference: TPA09FFA; Publisher: Altium Limited; PackageDescription: Thin Micro SMD, 9 Bump, 0.5mm Pitch; RoHS: Y; PinCount: 9; Code_JEDEC: MO-211-BC; ComponentLink1Description: LM3702 Datasheet; ComponentLink1URL: http://www.national.com/ds/LM/LM3702.pdf; ComponentLink2Description: LM3702 Web Page; ComponentLink2URL: http://www.national.com/pf/LM/LM3702.html; ComponentLink3Description: TPA09FFA Package Page; ComponentLink3URL: http://www.national.com/packaging/folders/tpa09ffa.html
footprint TPA09FFA (Micro SMD, 9-Leads, Body 1.41x1.41mm, Pitch 0.5mm, NSC Recommended)
part A pins: A1 ~{MR} (in), B1 VCC (power), B3 GND (power), C1 ~{RESET} (out), C3 ~{LLO} (out)
part B pins: A2 NC, A3 NC, B2 NC, C2 NC

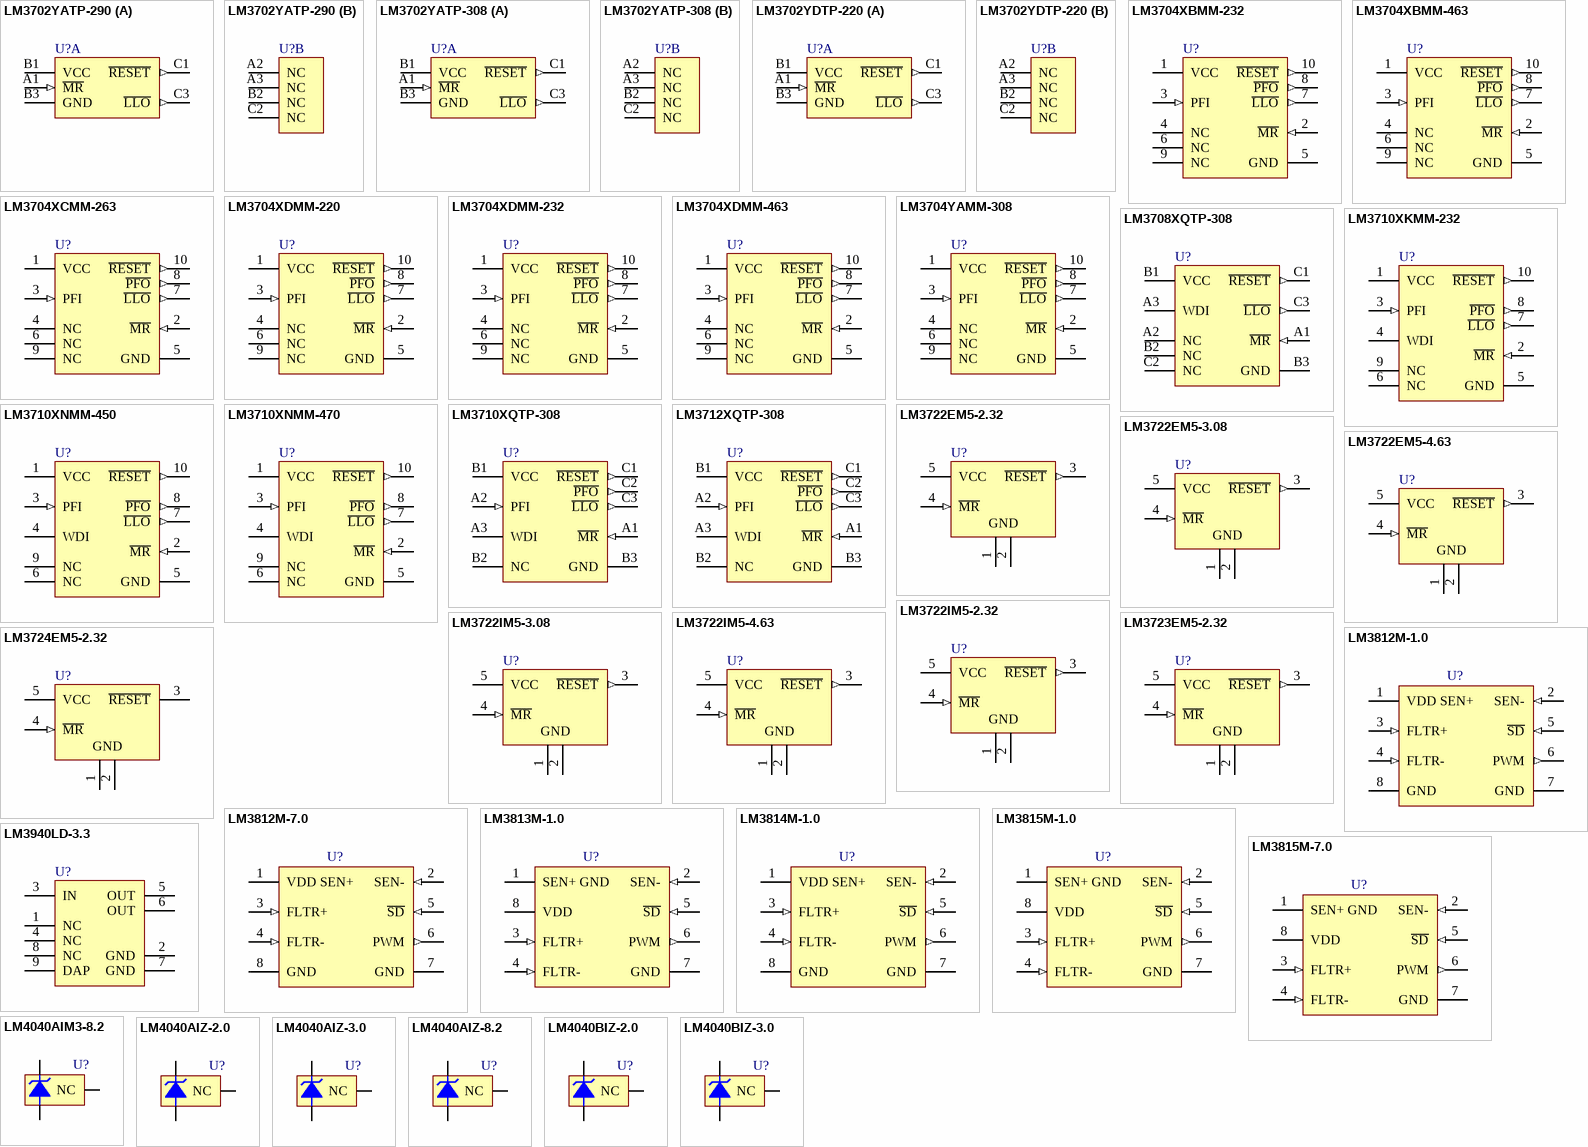
[diagram p10: symbols LM3702YATP-290 to LM4040BIZ-3.0]

## LM3702YATP-290
designator U?
Microprocessor Supervisory Circuits with Low Line Output and Manual Reset, 9-pin Micro SMD; PartNumber: LM3702YATP-290; Manufacturer: National Semiconductor; PackageTopMarking: XVR*I 42; PowerWise: N; CompType: MiscPower; Published: 4-Dec-2008; DatasheetVersion: Sep-2003; PackageVersion: revA, Mar-2002; PackageReference: TPA09FFA; Publisher: Altium Limited; PackageDescription: Thin Micro SMD, 9 Bump, 0.5mm Pitch; RoHS: Y; PinCount: 9; Code_JEDEC: MO-211-BC; ComponentLink1Description: LM3702 Datasheet; ComponentLink1URL: http://www.national.com/ds/LM/LM3702.pdf; ComponentLink2Description: LM3702 Web Page; ComponentLink2URL: http://www.national.com/pf/LM/LM3702.html; ComponentLink3Description: TPA09FFA Package Page; ComponentLink3URL: http://www.national.com/packaging/folders/tpa09ffa.html
footprint TPA09FFA (Micro SMD, 9-Leads, Body 1.41x1.41mm, Pitch 0.5mm, NSC Recommended)
part A pins: A1 ~{MR} (in), B1 VCC (power), B3 GND (power), C1 ~{RESET} (out), C3 ~{LLO} (out)
part B pins: A2 NC, A3 NC, B2 NC, C2 NC

## LM3702YATP-308
designator U?
Microprocessor Supervisory Circuits with Low Line Output and Manual Reset, 9-pin Micro SMD; PartNumber: LM3702YATP-308; Manufacturer: National Semiconductor; PackageTopMarking: XVR*I 39; PowerWise: N; CompType: MiscPower; Published: 4-Dec-2008; DatasheetVersion: Sep-2003; PackageVersion: revA, Mar-2002; PackageReference: TPA09FFA; Publisher: Altium Limited; PackageDescription: Thin Micro SMD, 9 Bump, 0.5mm Pitch; RoHS: Y; PinCount: 9; Code_JEDEC: MO-211-BC; ComponentLink1Description: LM3702 Datasheet; ComponentLink1URL: http://www.national.com/ds/LM/LM3702.pdf; ComponentLink2Description: LM3702 Web Page; ComponentLink2URL: http://www.national.com/pf/LM/LM3702.html; ComponentLink3Description: TPA09FFA Package Page; ComponentLink3URL: http://www.national.com/packaging/folders/tpa09ffa.html
footprint TPA09FFA (Micro SMD, 9-Leads, Body 1.41x1.41mm, Pitch 0.5mm, NSC Recommended)
part A pins: A1 ~{MR} (in), B1 VCC (power), B3 GND (power), C1 ~{RESET} (out), C3 ~{LLO} (out)
part B pins: A2 NC, A3 NC, B2 NC, C2 NC

## LM3702YDTP-220
designator U?
Microprocessor Supervisory Circuits with Low Line Output and Manual Reset, 9-pin Micro SMD; PartNumber: LM3702YDTP-220; Manufacturer: National Semiconductor; PackageTopMarking: XVR*I 35; PowerWise: N; CompType: MiscPower; Published: 4-Dec-2008; DatasheetVersion: Sep-2003; PackageVersion: revA, Mar-2002; PackageReference: TPA09FFA; Publisher: Altium Limited; PackageDescription: Thin Micro SMD, 9 Bump, 0.5mm Pitch; RoHS: Y; PinCount: 9; Code_JEDEC: MO-211-BC; ComponentLink1Description: LM3702 Datasheet; ComponentLink1URL: http://www.national.com/ds/LM/LM3702.pdf; ComponentLink2Description: LM3702 Web Page; ComponentLink2URL: http://www.national.com/pf/LM/LM3702.html; ComponentLink3Description: TPA09FFA Package Page; ComponentLink3URL: http://www.national.com/packaging/folders/tpa09ffa.html
footprint TPA09FFA (Micro SMD, 9-Leads, Body 1.41x1.41mm, Pitch 0.5mm, NSC Recommended)
part A pins: A1 ~{MR} (in), B1 VCC (power), B3 GND (power), C1 ~{RESET} (out), C3 ~{LLO} (out)
part B pins: A2 NC, A3 NC, B2 NC, C2 NC

## LM3704XBMM-232
designator U?
Microprocessor Supervisory Circuits with Power Fail Input, Low Line Output and Manual Reset, 10-pin MSOP; PartNumber: LM3704XBMM-232; Manufacturer: National Semiconductor; PackageTopMarking: ZXTT*R66B; CompType: MiscPower; Published: 4-Dec-2008; DatasheetVersion: Sep-2003; PackageVersion: revB, Jul-2003; PackageReference: MUB10A; Publisher: Altium Limited; PackageDescription: Mini-SO, Molded, .118 x .118 x .034in Body, 10 Lead, .0197in Pitch; RoHS: Y; PinCount: 10; Code_JEDEC: MO-187-BA; ComponentLink1Description: LM3704 Datasheet; ComponentLink1URL: http://www.national.com/ds/LM/LM3704.pdf; ComponentLink2Description: LM3704 Web Page; ComponentLink2URL: http://www.national.com/pf/LM/LM3704.html; ComponentLink3Description: MUB10A Package Page; ComponentLink3URL: http://www.national.com/packaging/folders/mub10a.html
footprint MUB10A_N (TSSOP, 10-Leads, Body 3x3mm, Pitch 0.5mm, IPC Medium Density)
footprint MUB10A_L (TSSOP, 10-Leads, Body 3x3mm, Pitch 0.5mm, IPC High Density)
footprint MUB10A_M (TSSOP, 10-Leads, Body 3x3mm, Pitch 0.5mm, IPC Low Density)
pins: 1 VCC (power), 2 ~{MR} (in), 3 PFI (in), 4 NC, 5 GND (power), 6 NC, 7 ~{LLO} (out), 8 ~{PFO} (out), 9 NC, 10 ~{RESET} (out)

## LM3704XBMM-463
designator U?
Microprocessor Supervisory Circuits with Power Fail Input, Low Line Output and Manual Reset, 10-pin MSOP; PartNumber: LM3704XBMM-463; Manufacturer: National Semiconductor; PackageTopMarking: ZXTT*R27B; CompType: MiscPower; Published: 4-Dec-2008; DatasheetVersion: Sep-2003; PackageVersion: revB, Jul-2003; PackageReference: MUB10A; Publisher: Altium Limited; PackageDescription: Mini-SO, Molded, .118 x .118 x .034in Body, 10 Lead, .0197in Pitch; RoHS: Y; PinCount: 10; Code_JEDEC: MO-187-BA; ComponentLink1Description: LM3704 Datasheet; ComponentLink1URL: http://www.national.com/ds/LM/LM3704.pdf; ComponentLink2Description: LM3704 Web Page; ComponentLink2URL: http://www.national.com/pf/LM/LM3704.html; ComponentLink3Description: MUB10A Package Page; ComponentLink3URL: http://www.national.com/packaging/folders/mub10a.html
footprint MUB10A_N (TSSOP, 10-Leads, Body 3x3mm, Pitch 0.5mm, IPC Medium Density)
footprint MUB10A_L (TSSOP, 10-Leads, Body 3x3mm, Pitch 0.5mm, IPC High Density)
footprint MUB10A_M (TSSOP, 10-Leads, Body 3x3mm, Pitch 0.5mm, IPC Low Density)
pins: 1 VCC (power), 2 ~{MR} (in), 3 PFI (in), 4 NC, 5 GND (power), 6 NC, 7 ~{LLO} (out), 8 ~{PFO} (out), 9 NC, 10 ~{RESET} (out)

## LM3704XCMM-263
designator U?
Microprocessor Supervisory Circuits with Power Fail Input, Low Line Output and Manual Reset, 10-pin MSOP; PartNumber: LM3704XCMM-263; Manufacturer: National Semiconductor; PackageTopMarking: ZXTT*R79B; CompType: MiscPower; Published: 4-Dec-2008; DatasheetVersion: Sep-2003; PackageVersion: revB, Jul-2003; PackageReference: MUB10A; Publisher: Altium Limited; PackageDescription: Mini-SO, Molded, .118 x .118 x .034in Body, 10 Lead, .0197in Pitch; RoHS: Y; PinCount: 10; Code_JEDEC: MO-187-BA; ComponentLink1Description: LM3704 Datasheet; ComponentLink1URL: http://www.national.com/ds/LM/LM3704.pdf; ComponentLink2Description: LM3704 Web Page; ComponentLink2URL: http://www.national.com/pf/LM/LM3704.html; ComponentLink3Description: MUB10A Package Page; ComponentLink3URL: http://www.national.com/packaging/folders/mub10a.html
footprint MUB10A_N (TSSOP, 10-Leads, Body 3x3mm, Pitch 0.5mm, IPC Medium Density)
footprint MUB10A_L (TSSOP, 10-Leads, Body 3x3mm, Pitch 0.5mm, IPC High Density)
footprint MUB10A_M (TSSOP, 10-Leads, Body 3x3mm, Pitch 0.5mm, IPC Low Density)
pins: 1 VCC (power), 2 ~{MR} (in), 3 PFI (in), 4 NC, 5 GND (power), 6 NC, 7 ~{LLO} (out), 8 ~{PFO} (out), 9 NC, 10 ~{RESET} (out)

## LM3704XDMM-220
designator U?
Microprocessor Supervisory Circuits with Power Fail Input, Low Line Output and Manual Reset, 10-pin MSOP; PartNumber: LM3704XDMM-220; Manufacturer: National Semiconductor; PackageTopMarking: ZXTT*R65B; CompType: MiscPower; Published: 4-Dec-2008; DatasheetVersion: Sep-2003; PackageVersion: revB, Jul-2003; PackageReference: MUB10A; Publisher: Altium Limited; PackageDescription: Mini-SO, Molded, .118 x .118 x .034in Body, 10 Lead, .0197in Pitch; RoHS: Y; PinCount: 10; Code_JEDEC: MO-187-BA; ComponentLink1Description: LM3704 Datasheet; ComponentLink1URL: http://www.national.com/ds/LM/LM3704.pdf; ComponentLink2Description: LM3704 Web Page; ComponentLink2URL: http://www.national.com/pf/LM/LM3704.html; ComponentLink3Description: MUB10A Package Page; ComponentLink3URL: http://www.national.com/packaging/folders/mub10a.html
footprint MUB10A_N (TSSOP, 10-Leads, Body 3x3mm, Pitch 0.5mm, IPC Medium Density)
footprint MUB10A_L (TSSOP, 10-Leads, Body 3x3mm, Pitch 0.5mm, IPC High Density)
footprint MUB10A_M (TSSOP, 10-Leads, Body 3x3mm, Pitch 0.5mm, IPC Low Density)
pins: 1 VCC (power), 2 ~{MR} (in), 3 PFI (in), 4 NC, 5 GND (power), 6 NC, 7 ~{LLO} (out), 8 ~{PFO} (out), 9 NC, 10 ~{RESET} (out)

## LM3704XDMM-232
designator U?
Microprocessor Supervisory Circuits with Power Fail Input, Low Line Output and Manual Reset, 10-pin MSOP; PartNumber: LM3704XDMM-232; Manufacturer: National Semiconductor; PackageTopMarking: ZXTT*R67B; CompType: MiscPower; Published: 4-Dec-2008; DatasheetVersion: Sep-2003; PackageVersion: revB, Jul-2003; PackageReference: MUB10A; Publisher: Altium Limited; PackageDescription: Mini-SO, Molded, .118 x .118 x .034in Body, 10 Lead, .0197in Pitch; RoHS: N; PinCount: 10; Code_JEDEC: MO-187-BA; ComponentLink1Description: LM3704 Datasheet; ComponentLink1URL: http://www.national.com/ds/LM/LM3704.pdf; ComponentLink2Description: LM3704 Web Page; ComponentLink2URL: http://www.national.com/pf/LM/LM3704.html; ComponentLink3Description: MUB10A Package Page; ComponentLink3URL: http://www.national.com/packaging/folders/mub10a.html
footprint MUB10A_N (TSSOP, 10-Leads, Body 3x3mm, Pitch 0.5mm, IPC Medium Density)
footprint MUB10A_L (TSSOP, 10-Leads, Body 3x3mm, Pitch 0.5mm, IPC High Density)
footprint MUB10A_M (TSSOP, 10-Leads, Body 3x3mm, Pitch 0.5mm, IPC Low Density)
pins: 1 VCC (power), 2 ~{MR} (in), 3 PFI (in), 4 NC, 5 GND (power), 6 NC, 7 ~{LLO} (out), 8 ~{PFO} (out), 9 NC, 10 ~{RESET} (out)

## LM3704XDMM-463
designator U?
Microprocessor Supervisory Circuits with Power Fail Input, Low Line Output and Manual Reset, 10-pin MSOP; PartNumber: LM3704XDMM-463; Manufacturer: National Semiconductor; PackageTopMarking: ZXTT*R68B; CompType: MiscPower; Published: 4-Dec-2008; DatasheetVersion: Sep-2003; PackageVersion: revB, Jul-2003; PackageReference: MUB10A; Publisher: Altium Limited; PackageDescription: Mini-SO, Molded, .118 x .118 x .034in Body, 10 Lead, .0197in Pitch; RoHS: Y; PinCount: 10; Code_JEDEC: MO-187-BA; ComponentLink1Description: LM3704 Datasheet; ComponentLink1URL: http://www.national.com/ds/LM/LM3704.pdf; ComponentLink2Description: LM3704 Web Page; ComponentLink2URL: http://www.national.com/pf/LM/LM3704.html; ComponentLink3Description: MUB10A Package Page; ComponentLink3URL: http://www.national.com/packaging/folders/mub10a.html
footprint MUB10A_N (TSSOP, 10-Leads, Body 3x3mm, Pitch 0.5mm, IPC Medium Density)
footprint MUB10A_L (TSSOP, 10-Leads, Body 3x3mm, Pitch 0.5mm, IPC High Density)
footprint MUB10A_M (TSSOP, 10-Leads, Body 3x3mm, Pitch 0.5mm, IPC Low Density)
pins: 1 VCC (power), 2 ~{MR} (in), 3 PFI (in), 4 NC, 5 GND (power), 6 NC, 7 ~{LLO} (out), 8 ~{PFO} (out), 9 NC, 10 ~{RESET} (out)

## LM3704YAMM-308
designator U?
Microprocessor Supervisory Circuits with Power Fail Input, Low Line Output and Manual Reset, 10-pin MSOP; PartNumber: LM3704YAMM-308; Manufacturer: National Semiconductor; PackageTopMarking: ZXTT*R78B; CompType: MiscPower; Published: 4-Dec-2008; DatasheetVersion: Sep-2003; PackageVersion: revB, Jul-2003; PackageReference: MUB10A; Publisher: Altium Limited; PackageDescription: Mini-SO, Molded, .118 x .118 x .034in Body, 10 Lead, .0197in Pitch; Supplier 1: Farnell; Supplier Part Number 1: 1312721; RoHS: Y; PinCount: 10; Code_JEDEC: MO-187-BA; ComponentLink1Description: LM3704 Datasheet; ComponentLink1URL: http://www.national.com/ds/LM/LM3704.pdf; ComponentLink2Description: LM3704 Web Page; ComponentLink2URL: http://www.national.com/pf/LM/LM3704.html; ComponentLink3Description: MUB10A Package Page; ComponentLink3URL: http://www.national.com/packaging/folders/mub10a.html
footprint MUB10A_N (TSSOP, 10-Leads, Body 3x3mm, Pitch 0.5mm, IPC Medium Density)
footprint MUB10A_L (TSSOP, 10-Leads, Body 3x3mm, Pitch 0.5mm, IPC High Density)
footprint MUB10A_M (TSSOP, 10-Leads, Body 3x3mm, Pitch 0.5mm, IPC Low Density)
pins: 1 VCC (power), 2 ~{MR} (in), 3 PFI (in), 4 NC, 5 GND (power), 6 NC, 7 ~{LLO} (out), 8 ~{PFO} (out), 9 NC, 10 ~{RESET} (out)